# EAGLE library part RN4677 (library WCSMain)
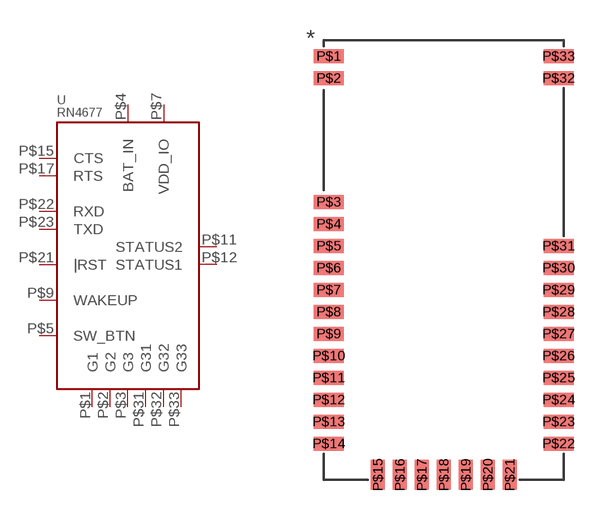
[diagram p15: symbol with the pads of RN4677; footprint RN4677]

Designator prefix -

## RN4677  [RN4677]
P$1  G1  pwr
P$2  G2  pwr
P$3  G3  pwr
P$4  BAT_IN  pwr
P$5  SW_BTN
P$7  VDD_IO  pwr
P$9  WAKEUP
P$11  STATUS2
P$12  STATUS1
P$15  CTS
P$17  RTS
P$21  |RST
P$22  RXD
P$23  TXD
P$31  G31  pwr
P$32  G32  pwr
P$33  G33  pwr

## Footprint RN4677 (pad centres in mm)
smd 1.5 x 0.7: P$1 0.25,21.2; P$2 0.25,20.1; P$3 0.25,13.9; P$4 0.25,12.8; P$5 0.25,11.7; P$6 0.25,10.6; P$7 0.25,9.5; P$8 0.25,8.4; P$9 0.25,7.3; P$10 0.25,6.2; P$11 0.25,5.1; P$12 0.25,4; P$13 0.25,2.9; P$14 0.25,1.8; P$22 11.75,1.8; P$23 11.75,2.9; P$24 11.75,4; P$25 11.75,5.1; P$26 11.75,6.2; P$27 11.75,7.3; P$28 11.75,8.4; P$29 11.75,9.5; P$30 11.75,10.6; P$31 11.75,11.7; P$32 11.75,20.1; P$33 11.75,21.2
smd 0.7 x 1.5: P$15 2.7,0.25; P$16 3.8,0.25; P$17 4.9,0.25; P$18 6,0.25; P$19 7.1,0.25; P$20 8.2,0.25; P$21 9.3,0.25